# Altium footprint library 54138792.PcbLib: 1 footprints
Each footprint in its own frame and in the unit in brackets; x right, y up, seen from the top. Pads: shape width x height; smd on the part's side, far side on the other; paste and mask are expansions set on the pad; w line width, h text height; cw(c..) or ccw(c..) is an arc to the next point about the centre after c.
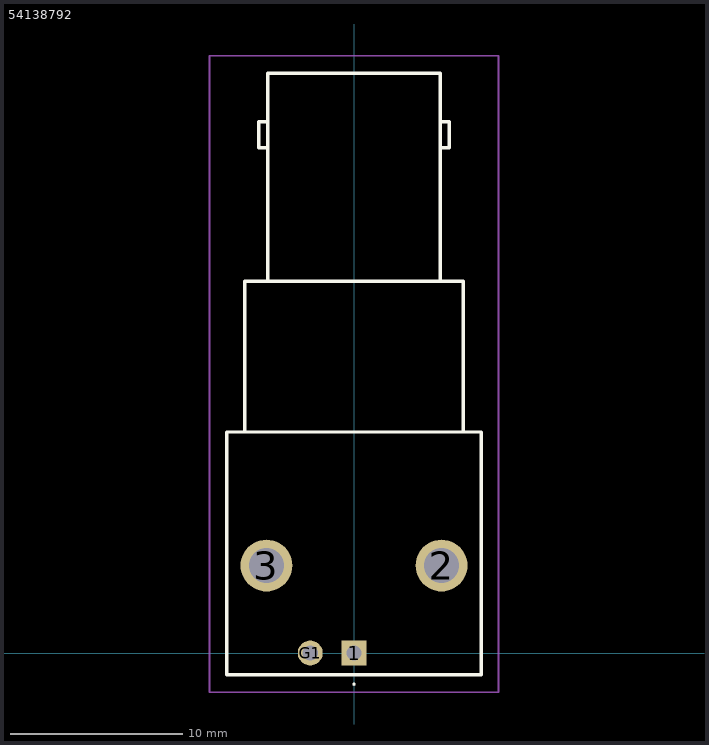
[diagram p0: the footprint, top view; thin cyan lines are the x and y axes]

## 54138792 [mm]
pads (4):
  rect 1.446x1.446 hole 0.89: 1(0,0)
  round 3.015 hole 2.01: 2(5.08,5.08) 3(-5.08,5.08)
  round 1.446 hole 0.89: G1(-2.54,0)
Top Overlay:
  lines w0.1: 0,-1.85 ccw(c0,-1.8) 0,-1.75 ccw(c0,-1.8) 0,-1.85
  lines w0.2: -6.35,12.83 -6.35,21.59 6.35,21.59 6.35,12.83 ; -5,21.59 -5,33.66 5,33.66 5,21.59 5,29.33 5.535,29.33 5.535,30.83 5,30.83 ; -5,29.33 -5.535,29.33 -5.535,30.83 -5,30.83 ; -7.38,-1.27 7.38,-1.27 7.38,12.83 -7.38,12.83 -7.38,-1.27
Mechanical 15:
  lines w0.1: -6.35,12.83 -6.35,21.59 6.35,21.59 6.35,12.83 ; -5,21.59 -5,33.66 5,33.66 5,21.59 ; -5,29.33 -5.535,29.33 -5.535,30.83 -5,30.83 ; 5,29.33 5.535,29.33 5.535,30.83 5,30.83 ; -7.38,-1.27 7.38,-1.27 7.38,12.83 -7.38,12.83 -7.38,-1.27
Mechanical 20:
  lines w0.1: -8.38,-2.27 8.38,-2.27 8.38,34.66 -8.38,34.66 -8.38,-2.27
3D body "5413879-2.stp": height 13.41, standoff -3.4, extent -7.518,-1.079 7.239,33.846